# Altium schematic symbol library RES,75k,5%,0.125W,0805.Schlib: 1 symbol
Pins are listed as number, name and electrical type; pins without a type are passive.

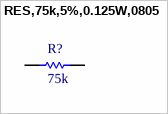
[diagram p0: symbol RES,75k,5%,0.125W,0805]

## RES,75k,5%,0.125W,0805
designator R?, comment 75k
RES SMD 75K OHM 5% 1/8W 0805
pins: 1, 2